# Altium footprint library Microsemi.PcbLib: 1 footprints
Each footprint in its own frame and in the unit in brackets; x right, y up, seen from the top. Pads: shape width x height; smd on the part's side, far side on the other; paste and mask are expansions set on the pad; w line width, h text height; cw(c..) or ccw(c..) is an arc to the next point about the centre after c.
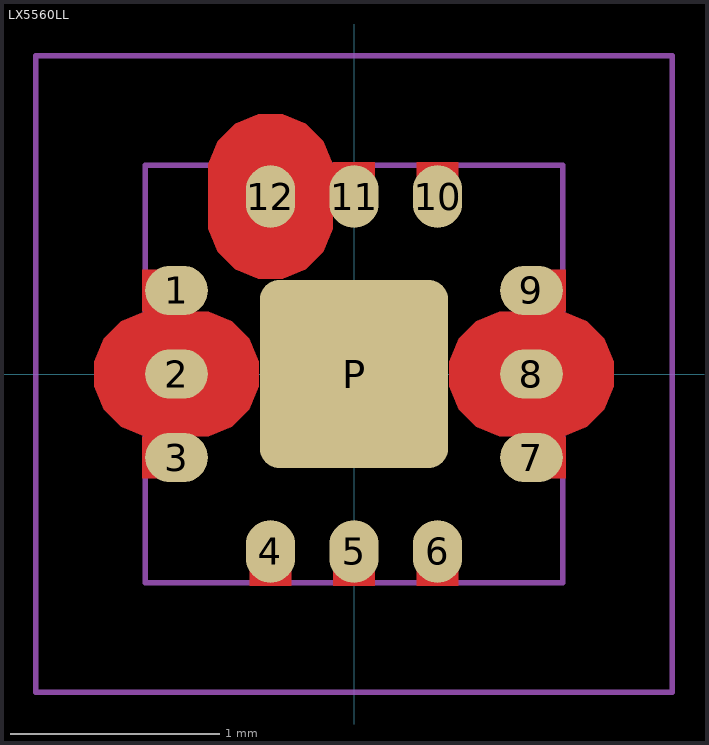
[diagram p0: the footprint, top view; thin cyan lines are the x and y axes]

## LX5560LL [mm]
pads (13):
  oval 0.3x0.236 smd mask+0.038: 1(-0.85,0.4) 2(-0.85,0) 3(-0.85,-0.4) 7(0.85,-0.4) 8(0.85,0) 9(0.85,0.4)
  oval 0.236x0.3 smd mask+0.038: 4(-0.4,-0.85) 5(0,-0.85) 6(0.4,-0.85) 10(0.4,0.85) 11(0,0.85) 12(-0.4,0.85)
  rrect20% 0.9x0.9 smd paste-2.54 mask+0.051: P(0,0)
Top Layer:
  rectangle: 0.85,-0.102 1.016,0.102
  rectangle: 0.85,0.298 1.016,0.502
  rectangle: 0.85,-0.502 1.016,-0.298
  region: 0.298,-0.85 0.298,-1.016 0.502,-1.016 0.502,-0.85
  region: -0.102,-0.85 -0.102,-1.016 0.102,-1.016 0.102,-0.85
  region: -0.502,-0.85 -0.502,-1.016 -0.298,-1.016 -0.298,-0.85
  region: -0.85,-0.298 -1.016,-0.298 -1.016,-0.502 -0.85,-0.502
  region: -0.85,0.102 -1.016,0.102 -1.016,-0.102 -0.85,-0.102
  region: -0.85,0.502 -1.016,0.502 -1.016,0.298 -0.85,0.298
  region: -0.298,0.85 -0.298,1.016 -0.502,1.016 -0.502,0.85
  region: 0.102,0.85 0.102,1.016 -0.102,1.016 -0.102,0.85
  region: 0.502,0.85 0.502,1.016 0.298,1.016 0.298,0.85
  pour cut-out: -0.756,0.298 -0.696,0.298 -0.587,0.253 -0.503,0.169 -0.457,0.059 -0.457,0 -0.457,-0.059 -0.503,-0.169 -0.587,-0.253 -0.696,-0.298 -0.756,-0.298 -0.946,-0.298 -1.006,-0.298 -1.115,-0.253 -1.199,-0.169 -1.245,-0.059 -1.245,0 -1.245,0.059 -1.199,0.169 -1.115,0.253 -1.006,0.298 -0.946,0.298
  pour cut-out: 0.756,-0.298 0.696,-0.298 0.587,-0.253 0.503,-0.169 0.457,-0.059 0.457,0 0.457,0.059 0.503,0.169 0.587,0.253 0.696,0.298 0.756,0.298 0.946,0.298 1.006,0.298 1.115,0.253 1.199,0.169 1.245,0.059 1.245,0 1.245,-0.059 1.199,-0.169 1.115,-0.253 1.006,-0.298 0.946,-0.298
  pour cut-out: -0.102,0.756 -0.102,0.696 -0.147,0.587 -0.231,0.503 -0.341,0.457 -0.4,0.457 -0.459,0.457 -0.569,0.503 -0.653,0.587 -0.698,0.696 -0.698,0.756 -0.698,0.946 -0.698,1.006 -0.653,1.115 -0.569,1.199 -0.459,1.245 -0.4,1.245 -0.341,1.245 -0.231,1.199 -0.147,1.115 -0.102,1.006 -0.102,0.946
Top Paste:
  region: 0.076,0.076 0.457,0.076 0.457,0.356 0.356,0.457 0.076,0.457
  region: 0.076,-0.076 0.076,-0.457 0.356,-0.457 0.457,-0.356 0.457,-0.076
  region: -0.076,-0.076 -0.457,-0.076 -0.457,-0.356 -0.356,-0.457 -0.076,-0.457
  region: -0.076,0.076 -0.076,0.457 -0.356,0.457 -0.457,0.356 -0.457,0.076
Top Solder:
  rectangle: -0.406,0.663 0.406,1.054
  region: -0.663,-0.406 -0.663,0.406 -1.054,0.406 -1.054,-0.406
  region: 0.406,-0.663 -0.406,-0.663 -0.406,-1.054 0.406,-1.054
  region: 0.663,0.406 0.663,-0.406 1.054,-0.406 1.054,0.406
  region: -1.245,0.813 -1.524,0.991 -1.524,0.635
Top Designator:
  text ".Designator" at -3.242,-0.317 h0.89
Top Courtyard:
  lines w0.025: -1.524,-1.524 1.524,-1.524 1.524,1.524 -1.524,1.524 -1.524,-1.524
Top Component Outline:
  lines w0.025: -1,-1 -1,1 1,1 1,-1 -1,-1
3D body: height 0.53, standoff 0, extent -1,-1 1,1
3D body: height 0.25, standoff 0, extent 0.273,-1.025 0.527,-0.771
3D body: height 0.25, standoff 0, extent -0.127,-1.025 0.127,-0.771
3D body: height 0.25, standoff 0, extent -0.527,-1.025 -0.273,-0.771
3D body: height 0.25, standoff 0, extent -1.025,-0.527 -0.771,-0.273
3D body: height 0.25, standoff 0, extent -1.025,-0.127 -0.771,0.127
3D body: height 0.25, standoff 0, extent -1.025,0.273 -0.771,0.527
3D body: height 0.25, standoff 0, extent 0.771,-0.527 1.025,-0.273
3D body: height 0.25, standoff 0, extent 0.771,-0.127 1.025,0.127
3D body: height 0.25, standoff 0, extent 0.771,0.273 1.025,0.527
3D body: height 0.25, standoff 0, extent 0.273,0.771 0.527,1.025
3D body: height 0.25, standoff 0, extent -0.127,0.771 0.127,1.025
3D body: height 0.25, standoff 0, extent -0.527,0.771 -0.273,1.025